# Altium footprint library STCAutoDownload.PcbLib: 13 footprints
Each footprint in its own frame and in the unit in brackets; x right, y up, seen from the top. Pads: shape width x height; smd on the part's side, far side on the other; paste and mask are expansions set on the pad; w line width, h text height; cw(c..) or ccw(c..) is an arc to the next point about the centre after c.
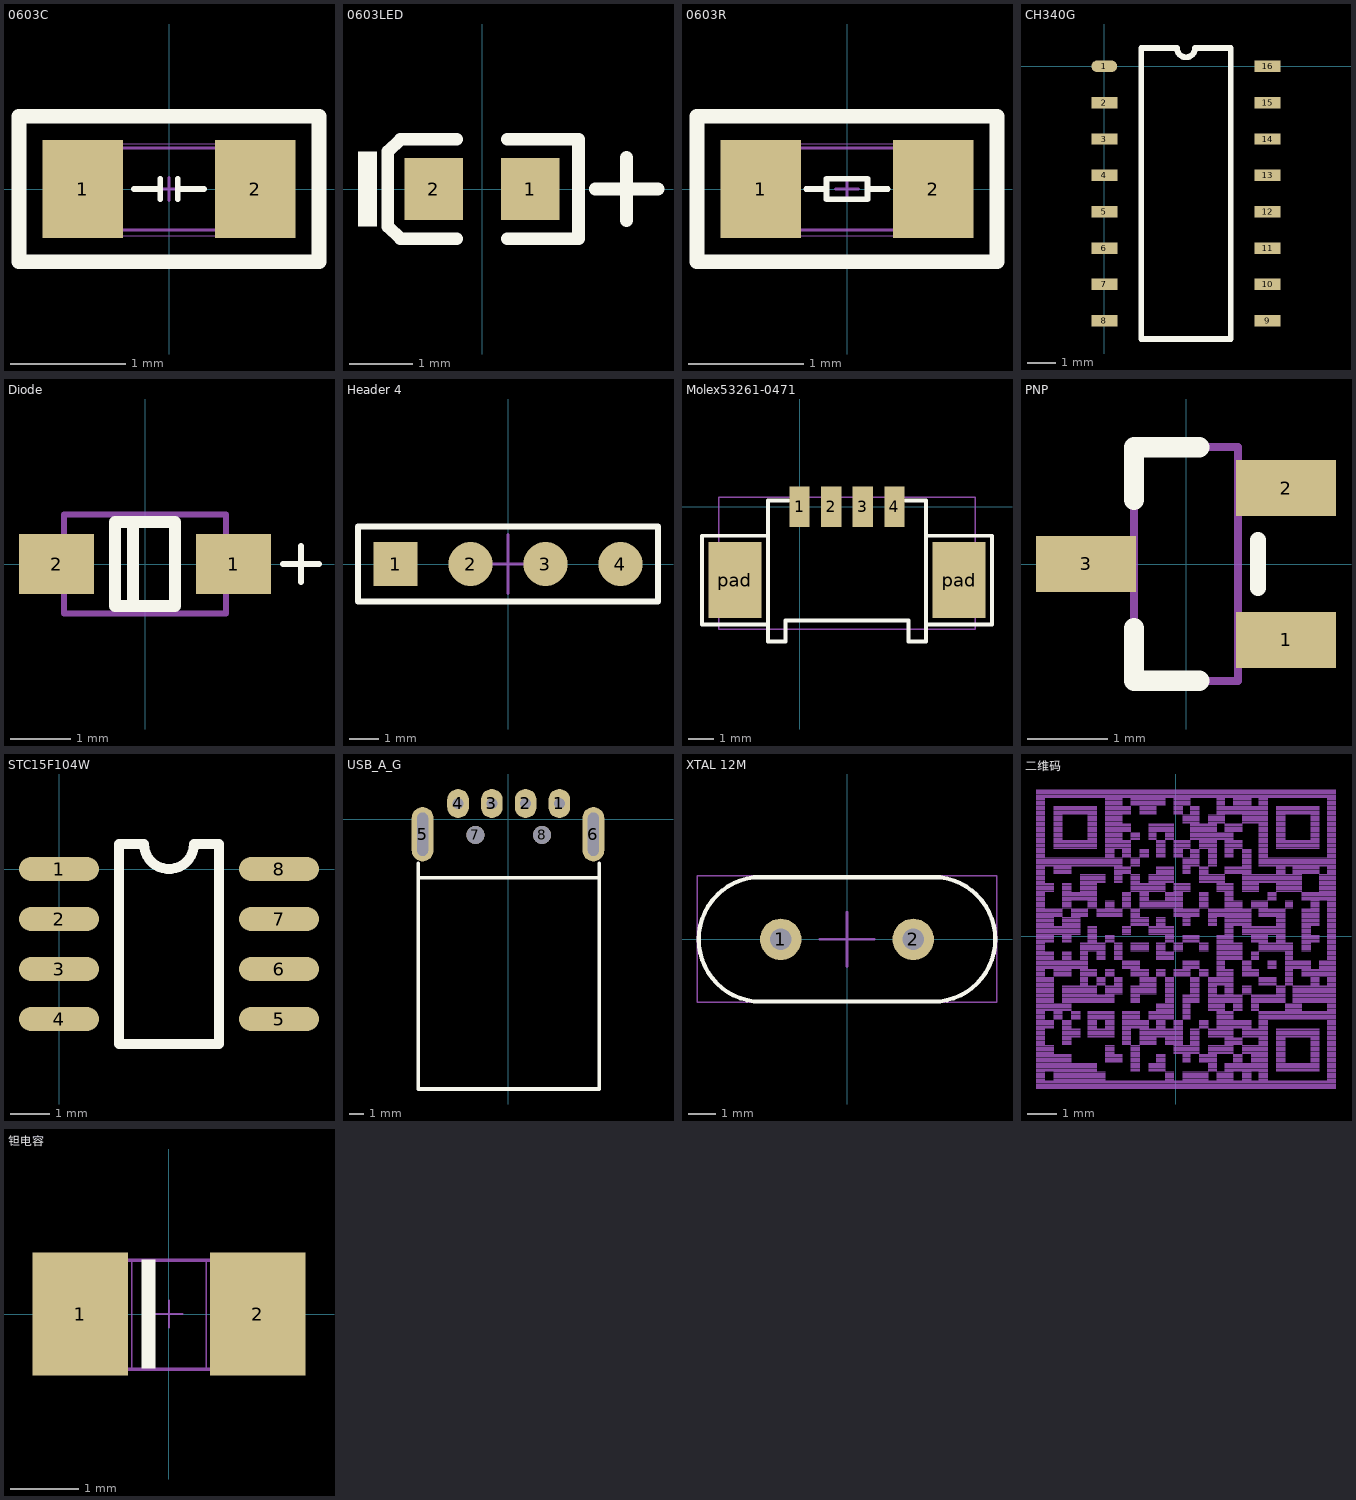
[diagram p0: the footprints below, top view; thin cyan lines are the x and y axes]

## 0603C [mm] "VISHAY VJ贴片电容"
height 0.92
pads (2):
  rect 0.7x0.85 smd: 1(-0.75,0) 2(0.75,0)
Top Overlay:
  lines w0.051: -0.305,0 -0.076,0 ; -0.076,-0.089 -0.076,0.089 ; 0.076,-0.089 0.076,0.089 ; 0.076,0 0.305,0
  lines w0.127: -1.306,-0.635 -1.306,0.635 1.306,0.635 1.306,-0.635 -1.306,-0.635
Mechanical 13:
  lines w0.01: -0.8,-0.406 0.8,-0.406 0.8,0.394 -0.8,0.394 -0.8,-0.406
Mechanical 15:
  lines w0.025: -0.445,-0.356 -0.445,0.356 ; -0.1,0 0.1,0 ; 0,-0.1 0,0.1 ; 0.445,-0.356 0.445,0.356 ; -0.813,-0.356 0.813,-0.356 0.813,0.356 -0.813,0.356 -0.813,-0.356
3D body "vj0603.stp": height 0.58, standoff -0.02, extent -0.8,-0.4 0.8,0.4

## 0603LED [mm] "0603 贴片LED"
pads (2):
  rect 0.93x0.98 smd: 1(0.77,0) 2(-0.77,0)
Top Overlay:
  rectangle: -1.975,-0.6 -1.675,0.6
  lines w0.2: -0.4,-0.79 -1.3,-0.79 -1.5,-0.597 -1.5,0.597 -1.3,0.79 -0.4,0.79 ; 0.4,-0.79 1.535,-0.79 1.535,0.79 0.4,0.79
  lines w0.203: 1.8,0 2.8,0 ; 2.3,-0.5 2.3,0.5
3D body "User Library-LED_0603_R.STEP": height 0.6, standoff 0, extent -0.8,-0.4 0.8,0.4

## 0603R [mm] "电阻"
pads (2):
  rect 0.7x0.85 smd: 1(-0.75,0) 2(0.75,0)
Top Overlay:
  lines w0.051: -0.356,0 -0.178,0 ; 0.178,0 0.356,0 ; -0.178,-0.089 -0.178,0.089 0.178,0.089 0.178,-0.089 -0.178,-0.089
  lines w0.127: -1.306,-0.635 1.306,-0.635 1.306,0.635 -1.306,0.635 -1.306,-0.635
Mechanical 13:
  lines w0.01: -0.8,-0.406 -0.8,0.394 0.8,0.394 0.8,-0.406 -0.8,-0.406
Mechanical 15:
  lines w0.025: -0.445,-0.356 -0.445,0.356 ; -0.1,0 0.1,0 ; 0,-0.1 0,0.1 ; 0.445,-0.356 0.445,0.356 ; -0.813,-0.356 -0.813,0.356 0.813,0.356 0.813,-0.356 -0.813,-0.356
3D body "R0603.STEP": height 0.45, standoff 0, extent -0.8,-0.4 0.8,0.4

## CH340G [mm] "USB to TTL Serial / UART"
pads (16):
  oval 0.9x0.4 smd: 1(0,0)
  rect 0.9x0.4 smd: 2(0,-1.27) 3(0,-2.54) 4(0,-3.81) 5(0,-5.08) 6(0,-6.35) 7(0,-7.62) 8(0,-8.89) 9(5.7,-8.89) 10(5.7,-7.62) 11(5.7,-6.35) 12(5.7,-5.08) 13(5.7,-3.81) 14(5.7,-2.54) 15(5.7,-1.27) 16(5.7,0)
Top Overlay:
  lines w0.2: 1.285,-9.525 4.415,-9.525 4.415,0.635 3.167,0.635 cw(c2.85,0.635) 2.532,0.635 1.285,0.635 1.285,-9.525
3D body "SOP-16.STEP": height 1.55, standoff -0.05, extent -0.282,-9.445 5.982,0.555

## Diode [mm] "SOD-123"
pads (2):
  rect 1.25x1 smd: 1(1.475,0) 2(-1.475,0)
Top Overlay:
  lines w0.1: 2.3,0 2.9,0 ; 2.6,-0.3 2.6,0.3
  lines w0.2: -0.2,-0.7 -0.2,0.7 ; -0.5,-0.7 -0.5,0.7 0.5,0.7 0.5,-0.7 -0.5,-0.7
Mechanical 13:
  lines w0.1: -1.35,-0.825 1.35,-0.825 1.35,0.825 -1.35,0.825 -1.35,-0.825
3D body "SOD123.STEP": height 1.35, standoff 0, extent -1.85,-0.775 1.85,0.775

## Header 4 [mm] "Connector; Header; 4 Position"
pads (4):
  rect 1.5x1.5 smd: 1(-3.81,0)
  round 1.5 smd: 2(-1.27,0) 3(1.27,0) 4(3.81,0)
Top Overlay:
  lines w0.2: -5.08,-1.27 5.08,-1.27 5.08,1.27 -5.08,1.27 -5.08,-1.27
Mechanical 13:
  lines w0.05: -5.08,-1.25 -5.08,1.25 5.08,1.25 5.08,-1.25 -5.08,-1.25
Mechanical 15:
  lines w0.1: -1,0 1,0 ; 0,-1 0,1
3D body "sip254p-4v.stp": height 1.63, standoff -0.87, extent -5.08,-10.63 5.08,1.37

## Molex53261-0471 [mm] "molex 连接器"
height 3.4
pads (6):
  rect 0.8x1.6 smd: 1(0,0) 2(1.25,0) 3(2.5,0) 4(3.75,0)
  rect 2.1x3 smd: pad(-2.55,-2.9) pad(6.3,-2.9)
Top Overlay:
  lines w0.152: -3.85,-4.654 -3.85,-1.146 -1.25,-1.146 ; -3.85,-4.654 -1.25,-4.654 ; -0.725,0.254 -0.425,0.254 -1.25,0.254 -1.25,-4.696 -1.25,-5.321 -0.55,-5.321 -0.55,-4.496 4.3,-4.496 4.3,-5.321 5,-5.321 5,-4.696 5,0.254 4.175,0.254 4.475,0.254 ; 5,-4.654 7.6,-4.654 7.6,-1.146 5,-1.146
Mechanical 13:
  lines w0.05: -3.2,-4.828 6.95,-4.828 6.95,0.372 -3.2,0.372 -3.2,-4.828
3D body "532610471.stp": height 3.41, standoff 0.01, extent -3.2,-4.828 6.95,0.372

## PNP [mm] "SOT-23(SOT-23-3)"
pads (3):
  rect 1.25x0.7 smd: 1(1.25,-0.95) 2(1.25,0.95) 3(-1.25,0)
Top Overlay:
  lines w0.2: 0.9,-0.3 0.9,0.3
  lines w0.254: -0.65,-0.8 -0.65,-1.46 0.165,-1.46 ; 0.165,1.46 -0.65,1.46 ; -0.65,0.8 -0.65,1.46 ; -0.65,0.8 -0.65,1.46 ; -0.65,0.8 -0.65,1.46
Mechanical 13:
  lines w0.1: -0.65,-1.46 -0.65,1.46 ; -0.65,-1.46 0.65,-1.46 ; -0.65,-1.46 0.65,-1.46 ; -0.65,-1.46 -0.65,1.46 ; -0.65,-1.46 0.65,-1.46 ; -0.65,-1.46 -0.65,1.46 ; -0.65,1.46 0.65,1.46 ; -0.65,1.46 0.65,1.46 ; -0.65,1.46 0.65,1.46 ; 0.65,-1.46 0.65,1.46 ; 0.65,-1.46 0.65,1.46 ; 0.65,-1.46 0.65,1.46
3D body "SOT-23.step": height 1.3, standoff 0, extent -1.5,-1.5 1.5,1.5

## STC15F104W [mil] "SO8"
pads (8):
  oval 80x24 smd: 1(0,0) 2(0,-50) 3(0,-100) 4(0,-150) 5(220,-150) 6(220,-100) 7(220,-50) 8(220,0)
Top Overlay:
  lines w10: 60,-175 60,25 85,25 ccw(c110,25) 135,25 160,25 160,-175 60,-175
3D body "SO8-127P600X173.step": height 74.02, standoff 0, extent -9.21,-177.44 229.21,17.44

## USB_A_G [mil]
height 68.9
pads (8):
  oval 60x80 hole 30: 1(142,43.5) 2(48.67,43.5) 3(-44.67,43.5) 4(-138,43.5)
  oval 60x150 hole 30 slot 120 at 90 deg: 5(-236,-41.5) 6(236,-41.5)
  round 50 hole 50: 7(-90,-43.5) 8(94,-43.5)
Top Overlay:
  lines w10: -248,-121.5 -248,-161.5 ; 252,-121.5 252,-161.5 ; -248,-161.5 -248,-745.5 252,-745.5 252,-161.5 ; -248,-161.5 252,-161.5
3D body "USB-AM-S-F-B-TH.STEP": height 127.95, standoff -96.46, extent -246.06,-739.6 246.06,48.98

## XTAL 12M [mm] "晶体振荡器"
height 3.6
pads (2):
  round 1.524 hole 0.8: 1(-2.44,0) 2(2.44,0)
Top Overlay:
  lines w0.152: -3.429,-2.286 cw(c-3.16,0) -3.429,2.286 3.429,2.286 cw(c3.16,0) 3.429,-2.286 -3.429,-2.286
Mechanical 13:
  lines w0.05: -5.525,-2.313 -5.525,2.337 5.525,2.337 5.525,-2.313 -5.525,-2.313
Mechanical 15:
  lines w0.1: -1,0 1,0 ; 0,-1 0,1
3D body "hc-49s.stp": height 3.63, standoff -3.97, extent -5.525,-2.325 5.525,2.325

## 二维码 [mm]
Bottom Overlay:
  drawing of 2492 lines, arcs and shapes, not listed

## 钽电容 [mm] "A 型钽电容封装"
height 1.6
pads (2):
  rect 1.4x1.8 smd: 1(-1.3,0) 2(1.3,0)
Top Overlay:
  rectangle: -0.4,-0.8 -0.2,0.8
Mechanical 13:
  lines w0.05: -1.6,-0.813 1.6,-0.813 1.6,0.787 -1.6,0.787 -1.6,-0.813
Mechanical 15:
  lines w0.025: -0.546,-0.8 -0.546,0.8 ; -0.2,0 0,0 ; 0,-0.2 0,0 ; 0,0.2 0,0 ; 0.2,0 0,0 ; 0.546,-0.8 0.546,0.8 ; -1.6,-0.8 1.6,-0.8 1.6,0.8 -1.6,0.8 -1.6,-0.8
  text "+" at -1.397,-0.508 h1.5
  text "-" at 0.889,-0.381 h1.5
3D body "taj-a.stp": height 1.62, standoff 0.01, extent -1.6,-0.8 1.6,0.8